# EAGLE library part MIC5356-SGYMME-TR (library U-MICREL-MIC5356-SGYMME-TR-LDO)
LDO Voltage Regulators Dual 500mA uCap Low Dropout, Micropower Linear Regulator w/ Active Pull-Down Source: Datasheet <https://eagle.componentsearchengine.com/Datasheets/1/MIC5356-SGYMME-TR.pdf>
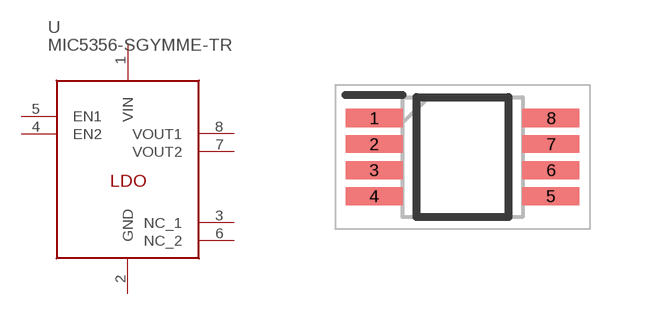
[diagram p0: symbol with the pads of SOP65P488X118-8N; footprint SOP65P488X118-8N]

Designator prefix U

## MIC5356-SGYMME-TR (DESCRIPTION: LDO Voltage Regulators Dual 500mA uCap Low Dropout, Micropower Linear Regulator w/ Active Pull-Down; HEIGHT: 1.18mm; MANUFACTURER_NAME: Microchip; MANUFACTURER_PART_NUMBER: MIC5356-SGYMME-TR; MOUSER_PART_NUMBER: 998-MIC5356-JGYMMETR)  [SOP65P488X118-8N]
1  VIN  pwr
2  GND  pwr
3  NC_1  nc
4  EN2  in
5  EN1  in
6  NC_2  nc
7  VOUT2  pwr
8  VOUT1  pwr

## Footprint SOP65P488X118-8N (pad centres in mm)
8 Lead MSOP
smd 1.425 x 0.45: 1 -2.212,0.975; 2 -2.212,0.325; 3 -2.212,-0.325; 4 -2.212,-0.975; 5 2.212,-0.975; 6 2.212,-0.325; 7 2.212,0.325; 8 2.212,0.975